# Altium footprint library Operational_Amplifiers.PcbLib: 5 footprints
Each footprint in its own frame and in the unit in brackets; x right, y up, seen from the top. Pads: shape width x height; smd on the part's side, far side on the other; paste and mask are expansions set on the pad; w line width, h text height; cw(c..) or ccw(c..) is an arc to the next point about the centre after c.
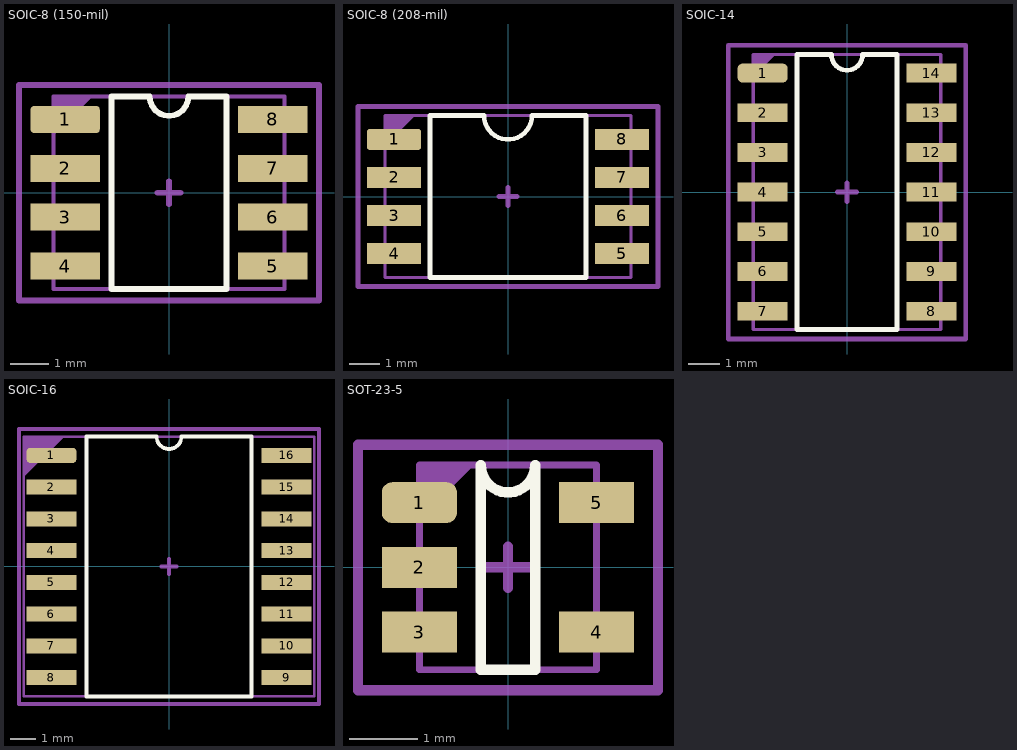
[diagram p0: the footprints below, top view; thin cyan lines are the x and y axes]

## SOIC-8 (150-mil) [mm]
pads (8):
  rrect25% 1.8x0.7 smd: 1(-2.7,1.905)
  rect 1.8x0.7 smd: 2(-2.7,0.635) 3(-2.7,-0.635) 4(-2.7,-1.905) 5(2.7,-1.905) 6(2.7,-0.635) 7(2.7,0.635) 8(2.7,1.905)
Top Overlay:
  lines w0.153: -1.5,-2.5 -1.5,2.5 -0.5,2.5 ccw(c0,2.5) 0.5,2.5 1.5,2.5 1.5,-2.5 -1.5,-2.5
Top Assembly:
  region: -3,2.5 -3,1.5 -2,2.5
  lines w0.1: -3,-2.5 3,-2.5 3,2.5 -3,2.5 -3,-2.5
  text "'.Designator'" at -4.532,-0.333 h0.8
Top Courtyard:
  lines w0.153: -0.3,0 0.3,0 ; 0,-0.3 0,0.3 ; -3.9,-2.8 -3.9,2.8 3.9,2.8 3.9,-2.8 -3.9,-2.8
3D body "so8-3.step": height 1.7, standoff 0, extent -3,-2.45 3,2.45

## SOIC-8 (208-mil) [mm]
pads (8):
  rrect25% 1.8x0.7 smd: 1(-3.8,1.905)
  rect 1.8x0.7 smd: 2(-3.8,0.635) 3(-3.8,-0.635) 4(-3.8,-1.905) 5(3.8,-1.905) 6(3.8,-0.635) 7(3.8,0.635) 8(3.8,1.905)
Top Overlay:
  lines w0.153: -2.6,-2.7 -2.6,2.7 -0.8,2.7 ccw(c0,2.7) 0.8,2.7 2.6,2.7 2.6,-2.7 -2.6,-2.7
Top Assembly:
  region: -4.1,2.7 -4.1,1.7 -3.1,2.7
  lines w0.1: -4.1,-2.7 -4.1,2.7 4.1,2.7 4.1,-2.7 -4.1,-2.7
  text "'.Designator'" at -4.532,-0.333 h0.8
Top Courtyard:
  lines w0.153: -0.3,0 0.3,0 ; 0,-0.3 0,0.3 ; -5,-3 5,-3 5,3 -5,3 -5,-3
3D body "User Library-SOIC-8-208.STEP": height 2.15, standoff 0, extent -4.1,-2.7 4.1,2.7

## SOIC-14 [mm]
pads (14):
  rrect50% 1.6x0.6 smd: 1(-2.7,3.81)
  rect 1.6x0.6 smd: 2(-2.7,2.54) 3(-2.7,1.27) 4(-2.7,0) 5(-2.7,-1.27) 6(-2.7,-2.54) 7(-2.7,-3.81) 8(2.7,-3.81) 9(2.7,-2.54) 10(2.7,-1.27) 11(2.7,0) 12(2.7,1.27) 13(2.7,2.54) 14(2.7,3.81)
Top Overlay:
  lines w0.153: -1.6,-4.4 -1.6,4.4 -0.5,4.4 ccw(c0,4.4) 0.5,4.4 1.6,4.4 1.6,-4.4 -1.6,-4.4
Top Assembly:
  region: -3,4.4 -2.3,4.4 -3,3.7
  lines w0.1: -3,-4.4 -3,4.4 3,4.4 3,-4.4 -3,-4.4
  text "'.Designator'" at -0.333,4.532 h0.8
Top Courtyard:
  lines w0.153: -0.3,0 0.3,0 ; 0,-0.3 0,0.3 ; -3.8,-4.7 -3.8,4.7 3.8,4.7 3.8,-4.7 -3.8,-4.7
3D body "soic14-1.step": height 1.7, standoff 0, extent -3,-4.4 3,4.4

## SOIC-16 [mm]
pads (16):
  rrect50% 2x0.6 smd: 1(-4.7,4.445)
  rect 2x0.6 smd: 2(-4.7,3.175) 3(-4.7,1.905) 4(-4.7,0.635) 5(-4.7,-0.635) 6(-4.7,-1.905) 7(-4.7,-3.175) 8(-4.7,-4.445) 9(4.7,-4.445) 10(4.7,-3.175) 11(4.7,-1.905) 12(4.7,-0.635) 13(4.7,0.635) 14(4.7,1.905) 15(4.7,3.175) 16(4.7,4.445)
Top Overlay:
  lines w0.153: -3.3,-5.2 -3.3,5.2 -0.5,5.2 ccw(c0,5.2) 0.5,5.2 3.3,5.2 3.3,-5.2 -3.3,-5.2
Top Assembly:
  region: -5.8,5.2 -5.8,3.6 -4.2,5.2
  lines w0.1: -5.8,-5.2 -5.8,5.2 5.8,5.2 5.8,-5.2 -5.8,-5.2
  text "'.Designator'" at -4.532,-0.333 h0.8
Top Courtyard:
  lines w0.153: -0.3,0 0.3,0 ; 0,-0.3 0,0.3 ; -6,-5.5 6,-5.5 6,5.5 -6,5.5 -6,-5.5
3D body "step_temp.STEP": height 2.64, standoff -0.01, extent -5.15,-5.15 5.15,5.15

## SOT-23-5 [mm]
pads (5):
  rrect50% 1.1x0.6 smd mask+0.05: 1(-1.3,0.95)
  rect 1.1x0.6 smd mask+0.05: 2(-1.3,0) 3(-1.3,-0.95) 4(1.3,-0.95) 5(1.3,0.95)
Top Overlay:
  lines w0.153: -0.4,-1.5 0.4,-1.5 0.4,1.5 cw(c0,1.5) -0.4,1.5 -0.4,-1.5
Top Assembly:
  region: -1.3,1.5 -1.3,0.7 -0.5,1.5
  lines w0.1: -1.3,-1.5 -1.3,1.5 1.3,1.5 1.3,-1.5 -1.3,-1.5
  text "'.Designator'" at -4.532,-0.333 h0.8
Top Courtyard:
  lines w0.153: -0.3,0 0.3,0 ; 0,-0.3 0,0.3 ; -2.2,-1.8 2.2,-1.8 2.2,1.8 -2.2,1.8 -2.2,-1.8
3D body "CircuitWorks-SOT-23-5.step": height 1.1, standoff 0, extent -1.25,-1.5 1.25,1.5